# Altium footprint library CPAV.PcbLib: 150 footprints (part 6 of 10)
Each footprint in its own frame and in the unit in brackets; x right, y up, seen from the top. Pads: shape width x height; smd on the part's side, far side on the other; paste and mask are expansions set on the pad; w line width, h text height; cw(c..) or ccw(c..) is an arc to the next point about the centre after c.
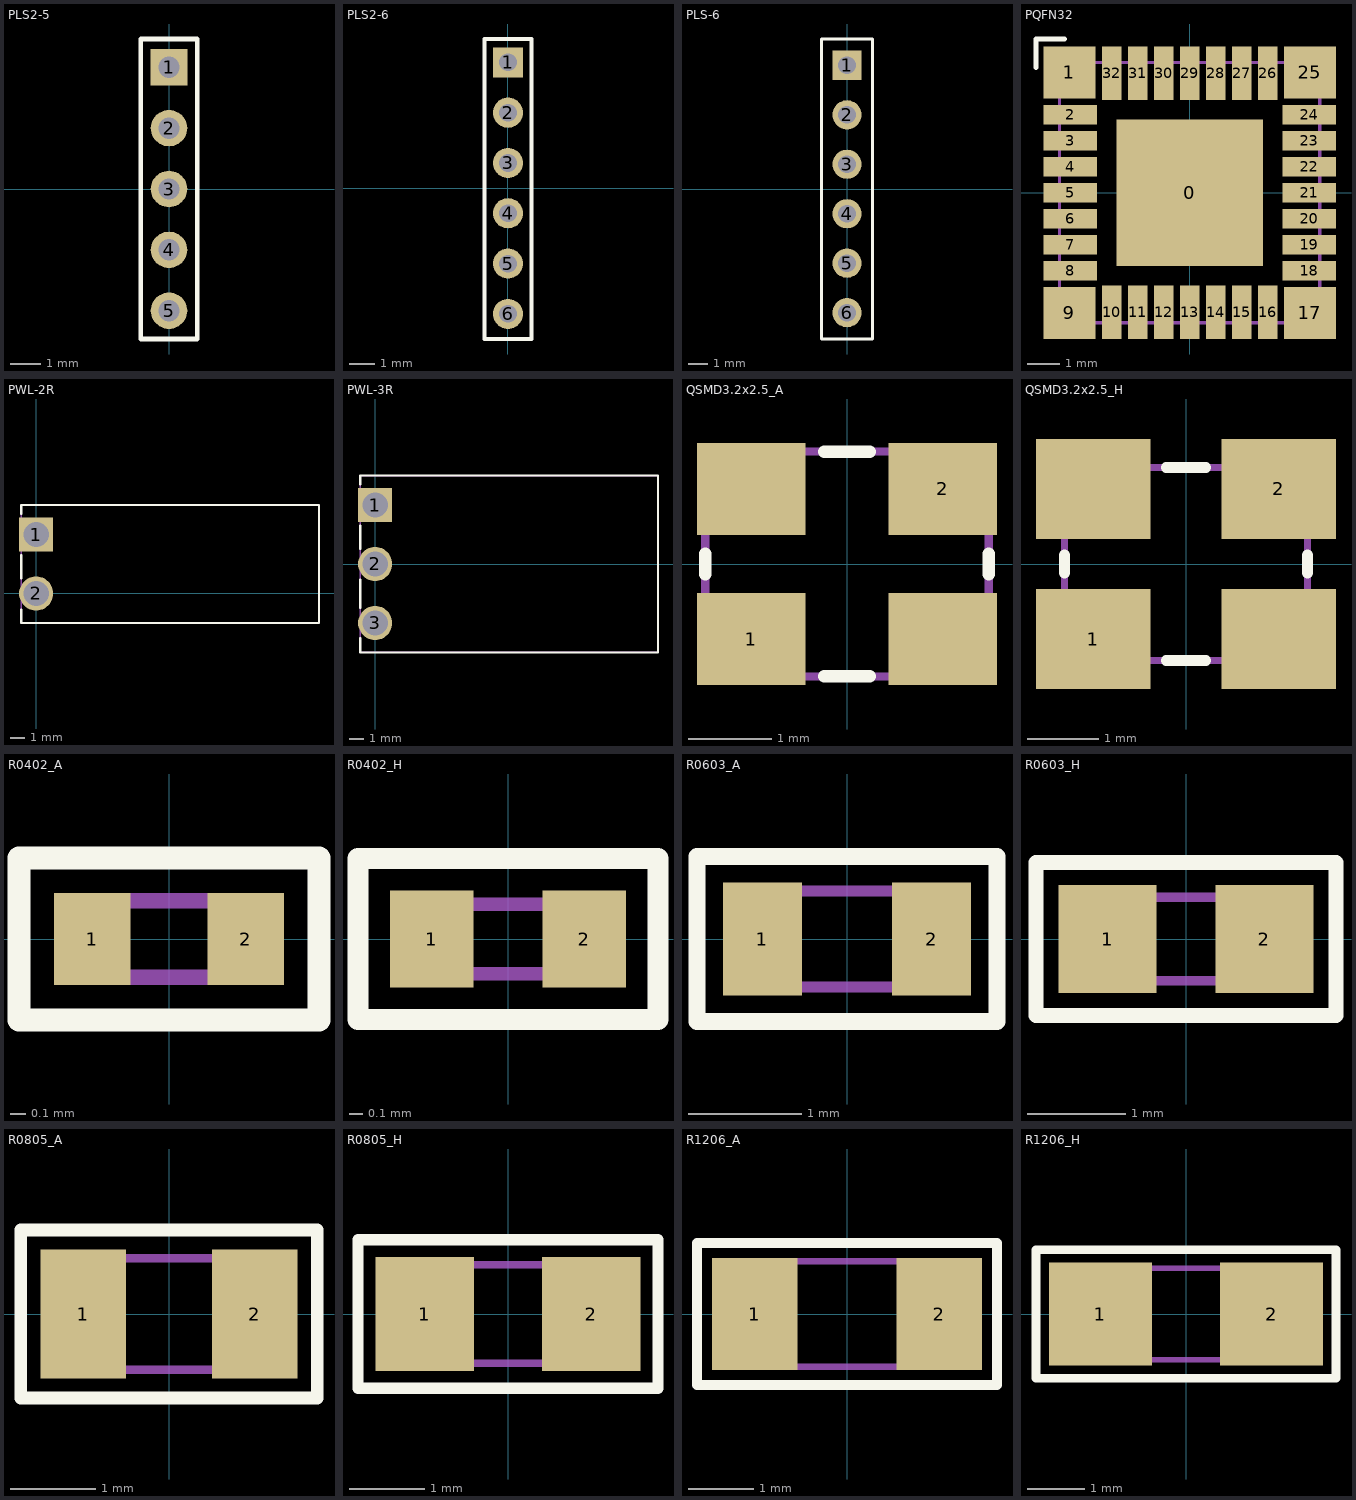
[diagram p5: the footprints below, top view; thin cyan lines are the x and y axes]

## PLS2-5 [mm]
height 0.05
pads (5):
  rect 1.2x1.2 hole 0.7: 1(0,4)
  round 1.2 hole 0.7: 2(0,2) 3(0,0) 4(0,-2) 5(0,-4)
Top Overlay:
  lines w0.15: -0.93,-4.93 0.93,-4.93 0.93,4.93 -0.93,4.93 -0.93,-4.93
Mechanical 7:
  lines w0.1: -0.93,-4.93 0.93,-4.93 0.93,4.93 -0.93,4.93 -0.93,-4.93
Mechanical 10:
  text ".Designator" at -0.55,5.34 h0.8
  text ".Comment" at -0.45,-5.59 h0.6
3D body: height 0.05, standoff 0, extent -0.93,-4.93 0.93,4.93

## PLS2-6 [mm]
pads (6):
  rect 1.2x1.2 hole 0.7: 1(0,5)
  round 1.2 hole 0.7: 2(0,3) 3(0,1) 4(0,-1) 5(0,-3) 6(0,-5)
Top Overlay:
  lines w0.15: -0.93,-6 -0.93,5.93 0.93,5.93 0.93,-6 -0.93,-6
Mechanical 7:
  lines w0.1: -0.93,-6 -0.93,5.93 0.93,5.93 0.93,-6 -0.93,-6
3D body: height 0.05, standoff 0, extent -0.93,-6 0.93,5.93

## PLS-6 [mm]
pads (6):
  rect 1.5x1.5 hole 0.9: 1(0,6.35)
  round 1.5 hole 0.9: 2(0,3.81) 3(0,1.27) 4(0,-1.27) 5(0,-3.81) 6(0,-6.35)
Top Overlay:
  lines w0.15: -1.3,-7.7 1.3,-7.7 1.3,7.7 -1.3,7.7 -1.3,-7.7
Mechanical 7:
  lines w0.1: -1.3,-7.7 -1.3,7.7 1.3,7.7 1.3,-7.7 -1.3,-7.7
3D body: height 8.5, standoff 0, extent -1.3,-7.7 1.3,7.7

## PQFN32 [mm]
height 2.2
pads (33):
  rect 4.5x4.5 smd: 0(0,0)
  rect 1.6x1.6 smd: 1(-3.7,3.7) 9(-3.7,-3.7) 17(3.7,-3.7) 25(3.7,3.7)
  rect 1.65x0.6 smd: 2(-3.675,2.4) 3(-3.675,1.6) 4(-3.675,0.8) 5(-3.675,0) 6(-3.675,-0.8) 7(-3.675,-1.6) 8(-3.675,-2.4) 18(3.675,-2.4) 19(3.675,-1.6) 20(3.675,-0.8) 21(3.675,0) 22(3.675,0.8) 23(3.675,1.6) 24(3.675,2.4)
  rect 0.6x1.65 smd: 10(-2.4,-3.675) 11(-1.6,-3.675) 12(-0.8,-3.675) 13(0,-3.675) 14(0.8,-3.675) 15(1.6,-3.675) 16(2.4,-3.675) 26(2.4,3.675) 27(1.6,3.675) 28(0.8,3.675) 29(0,3.675) 30(-0.8,3.675) 31(-1.6,3.675) 32(-2.4,3.675)
Top Overlay:
  lines w0.15: -4.725,3.85 -4.725,4.725 -3.85,4.725
Mechanical 7:
  lines w0.1: -4,-4 -4,4 4,4 4,-4 -4,-4
Mechanical 10:
  text ".Comment" at -0.85,5.15 h0.6
  text ".Designator" at -1.25,5.8 h0.8
3D body: height 2.2, standoff 0, extent -4,-4 4,4

## PWL-2R [mm]
height 10.2
pads (2):
  rect 2.3x2.3 hole 1.7: 1(0,3.96)
  round 2.3 hole 1.7: 2(0,0)
Top Overlay:
  lines w0.15: -1,-1.98 19,-1.98 19,5.94 -1,5.94 -1,5.35 ; -1,-1.975 -1,-1.1 ; -1,1 -1,2.575
Mechanical 7:
  lines w0.1: -1,-1.98 -1,5.94 19,5.94 19,-1.98 -1,-1.98
Mechanical 10:
  text ".Designator" at 7.945,7.23 h0.8
  text ".Comment" at 7.955,6.66 h0.6
3D body: height 10.2, standoff 0, extent -1,-1.98 19,5.94

## PWL-3R [mm]
height 10.2
pads (3):
  rect 2.3x2.3 hole 1.7: 1(0,3.96)
  round 2.3 hole 1.7: 2(0,0) 3(0,-3.96)
Top Overlay:
  lines w0.15: -1,-4.975 -1,-5.94 19,-5.94 19,5.94 -1,5.94 -1,5.35 ; -1,-2.95 -1,-1.05 ; -1,1.025 -1,2.575
Mechanical 7:
  lines w0.1: -1,-5.94 -1,5.94 19,5.94 19,-5.94 -1,-5.94
Mechanical 10:
  text ".Comment" at 7.955,6.66 h0.6
  text ".Designator" at 7.945,7.23 h0.8
3D body: height 10.2, standoff 0, extent -1,-5.94 19,5.94

## QSMD3.2x2.5_A [mm]
height 1.2
pads (4):
  rect 1.3x1.1 smd: 1(-1.15,-0.9) 2(1.15,0.9) ""(-1.15,0.9) ""(1.15,-0.9)
Top Overlay:
  lines w0.15: -1.7,-0.125 -1.7,0.125 ; -0.275,-1.35 0.275,-1.35 ; -0.275,1.35 0.275,1.35 ; 1.7,-0.125 1.7,0.125
Mechanical 7:
  lines w0.1: -1.7,-1.35 1.7,-1.35 1.7,1.35 -1.7,1.35 -1.7,-1.35
Mechanical 10:
  text ".Comment" at -0.825,1.85 h0.6
  text ".Designator" at -0.85,2.425 h0.8
3D body: height 1.2, standoff 0, extent -1.7,-1.35 1.7,1.35

## QSMD3.2x2.5_H [mm]
height 1.2
pads (4):
  rect 1.6x1.4 smd: 1(-1.3,-1.05) 2(1.3,1.05) ""(-1.3,1.05) ""(1.3,-1.05)
Top Overlay:
  lines w0.15: -1.7,-0.125 -1.7,0.125 ; -0.275,-1.35 0.275,-1.35 ; -0.275,1.35 0.275,1.35 ; 1.7,-0.125 1.7,0.125
Mechanical 7:
  lines w0.1: -1.7,-1.35 -1.7,1.35 1.7,1.35 1.7,-1.35 -1.7,-1.35
Mechanical 10:
  text ".Designator" at -0.825,2.75 h0.8
  text ".Comment" at -0.8,2.175 h0.6
3D body: height 1.2, standoff 0, extent -1.7,-1.35 1.7,1.35

## R0402_A [mm]
height 0.35
pads (2):
  rect 0.5x0.6 smd: 1(-0.5,0) 2(0.5,0)
Top Overlay:
  lines w0.15: -0.98,-0.53 -0.98,0.53 0.98,0.53 0.98,-0.53 -0.98,-0.53
Mechanical 7:
  lines w0.1: -0.5,-0.25 0.5,-0.25 0.5,0.25 -0.5,0.25 -0.5,-0.25
Mechanical 10:
  text ".Designator" at -0.58,0.75 h0.8
  text ".Comment" at -0.58,-1.11 h0.6
3D body: height 0.35, standoff 0, extent -0.5,-0.25 0.5,0.25

## R0402_H [mm]
height 0.35
pads (2):
  rect 0.6x0.7 smd: 1(-0.55,0) 2(0.55,0)
Top Overlay:
  lines w0.15: -1.08,-0.58 1.08,-0.58 1.08,0.58 -1.08,0.58 -1.08,-0.58
Mechanical 7:
  lines w0.1: -0.5,-0.25 -0.5,0.25 0.5,0.25 0.5,-0.25 -0.5,-0.25
Mechanical 10:
  text ".Comment" at -0.65,-1.15 h0.6
  text ".Designator" at -0.58,0.75 h0.8
3D body: height 0.35, standoff 0, extent -0.5,-0.25 0.5,0.25

## R0603_A [mm]
height 0.45
pads (2):
  rect 0.7x1 smd: 1(-0.75,0) 2(0.75,0)
Top Overlay:
  lines w0.15: -1.33,-0.73 1.33,-0.73 1.33,0.73 -1.33,0.73 -1.33,-0.73
Mechanical 7:
  lines w0.1: -0.8,-0.425 -0.8,0.425 0.8,0.425 0.8,-0.425 -0.8,-0.425
Mechanical 10:
  text ".Designator" at -0.62,1 h0.8
  text ".Comment" at -0.69,-1.29 h0.6
3D body: height 0.45, standoff 0, extent -0.8,-0.425 0.8,0.425

## R0603_H [mm]
height 0.45
pads (2):
  rect 1x1.1 smd: 1(-0.8,0) 2(0.8,0)
Top Overlay:
  lines w0.15: -1.53,-0.78 -1.53,0.78 1.53,0.78 1.53,-0.78 -1.53,-0.78
Mechanical 7:
  lines w0.1: -0.8,-0.425 0.8,-0.425 0.8,0.425 -0.8,0.425 -0.8,-0.425
Mechanical 10:
  text ".Designator" at -0.62,1 h0.8
  text ".Comment" at -0.78,-1.36 h0.6
3D body: height 0.45, standoff 0, extent -0.8,-0.425 0.8,0.425

## R0805_A [mm]
height 0.5
pads (2):
  rect 1x1.5 smd: 1(-1,0) 2(1,0)
Top Overlay:
  lines w0.15: -1.73,-0.98 1.73,-0.98 1.73,0.98 -1.73,0.98 -1.73,-0.98
Mechanical 7:
  lines w0.1: -1.05,-0.65 -1.05,0.65 1.05,0.65 1.05,-0.65 -1.05,-0.65
Mechanical 10:
  text ".Designator" at -0.47,1.37 h0.8
  text ".Comment" at -0.56,-1.62 h0.6
3D body: height 0.5, standoff 0, extent -1.05,-0.65 1.05,0.65

## R0805_H [mm]
height 0.5
pads (2):
  rect 1.3x1.5 smd: 1(-1.1,0) 2(1.1,0)
Top Overlay:
  lines w0.15: -1.98,-0.98 1.98,-0.98 1.98,0.98 -1.98,0.98 -1.98,-0.98
Mechanical 7:
  lines w0.1: -1.05,-0.65 1.05,-0.65 1.05,0.65 -1.05,0.65 -1.05,-0.65
Mechanical 10:
  text ".Comment" at -0.64,-1.56 h0.6
  text ".Designator" at -0.47,1.37 h0.8
3D body: height 0.5, standoff 0, extent -1.05,-0.65 1.05,0.65

## R1206_A [mm]
height 0.55
pads (2):
  rect 1.3x1.7 smd: 1(-1.4,0) 2(1.4,0)
Top Overlay:
  lines w0.15: -2.28,-1.08 2.28,-1.08 2.28,1.08 -2.28,1.08 -2.28,-1.08
Mechanical 7:
  lines w0.1: -1.55,-0.8 -1.55,0.8 1.55,0.8 1.55,-0.8 -1.55,-0.8
Mechanical 10:
  text ".Comment" at -0.58,-1.69 h0.6
  text ".Designator" at -0.55,1.31 h0.8
3D body: height 0.55, standoff 0, extent -1.55,-0.8 1.55,0.8

## R1206_H [mm]
height 0.55
pads (2):
  rect 1.8x1.8 smd: 1(-1.5,0) 2(1.5,0)
Top Overlay:
  lines w0.15: -2.63,-1.13 -2.63,1.13 2.63,1.13 2.63,-1.13 -2.63,-1.13
Mechanical 7:
  lines w0.1: -1.55,-0.8 -1.55,0.8 1.55,0.8 1.55,-0.8 -1.55,-0.8
Mechanical 10:
  text ".Designator" at -0.55,1.31 h0.8
  text ".Comment" at -0.58,-1.75 h0.6
3D body: height 0.55, standoff 0, extent -1.55,-0.8 1.55,0.8